# Altium footprint library PCB - CAPACITOR - CHIP - CAPC_0402.PCBLIB: 1 footprints
Each footprint in its own frame and in the unit in brackets; x right, y up, seen from the top. Pads: shape width x height; smd on the part's side, far side on the other; paste and mask are expansions set on the pad; w line width, h text height; cw(c..) or ccw(c..) is an arc to the next point about the centre after c.
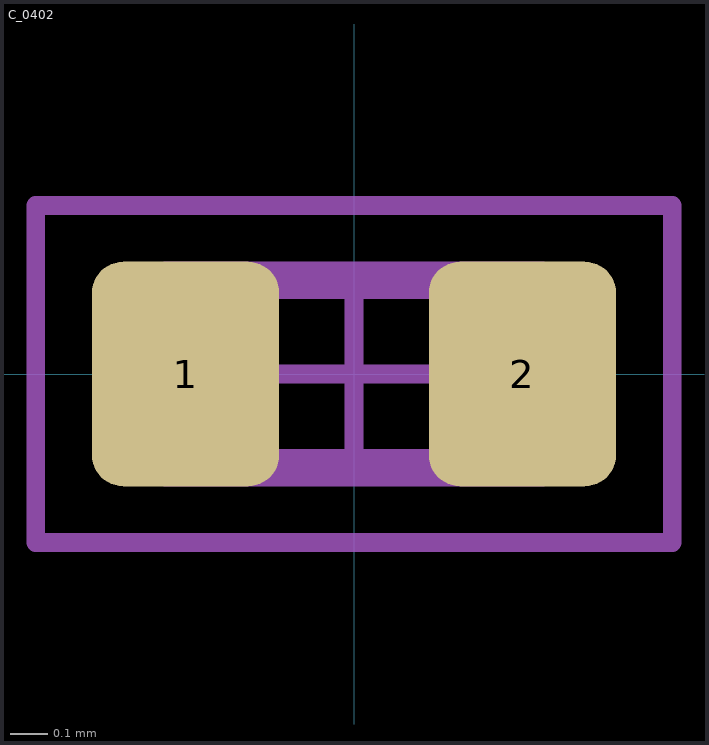
[diagram p0: the footprint, top view; thin cyan lines are the x and y axes]

## C_0402 [mm] "Vishay VJ0402 1 x 0.5mm (+/- 0.05), 0.25mm +0.05/-0.1mm Kontakte"
height 0.55
pads (2):
  rrect33% 0.5x0.6 smd: 1(-0.45,0) 2(0.45,0)
M5 Assembly Top:
  lines w0.1: -0.3,-0.25 -0.3,0.25 ; 0.3,-0.25 0.3,0.25 ; -0.5,-0.25 0.5,-0.25 0.5,0.25 -0.5,0.25 -0.5,-0.25
  text ".Designator" at -0.52,0.41 h0.76
Mechanical 15:
  lines w0.05: -0.225,0 0.225,0 ; 0,-0.225 0,0.225 ; -0.85,-0.45 0.85,-0.45 0.85,0.45 -0.85,0.45 -0.85,-0.45
3D body "User Library-SMD CAPACITOR0402.STEP": height 0.5, standoff 0, extent -0.5,-0.25 0.5,0.25